# Altium schematic symbol library 1676221-2.SchLib: 1 symbol
Pins are listed as number, name and electrical type; pins without a type are passive.

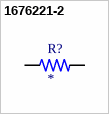
[diagram p0: symbol 1676221-2]

## 1676221-2
designator R?
RN 0805 1K0 0.1% 10PPM 1KRL; MF: {'manufacturer': u'TE Connectivity'}; MP: 1676221-2; Value: *; Price: None; Package: None; Availability: Unavailable
footprint RESC2012X65N
pins: 1, 2